# Altium integrated library HARTING DIN 41612 Type 2B.IntLib: 21 symbols
Pins are listed as number, name and electrical type; pins without a type are passive.

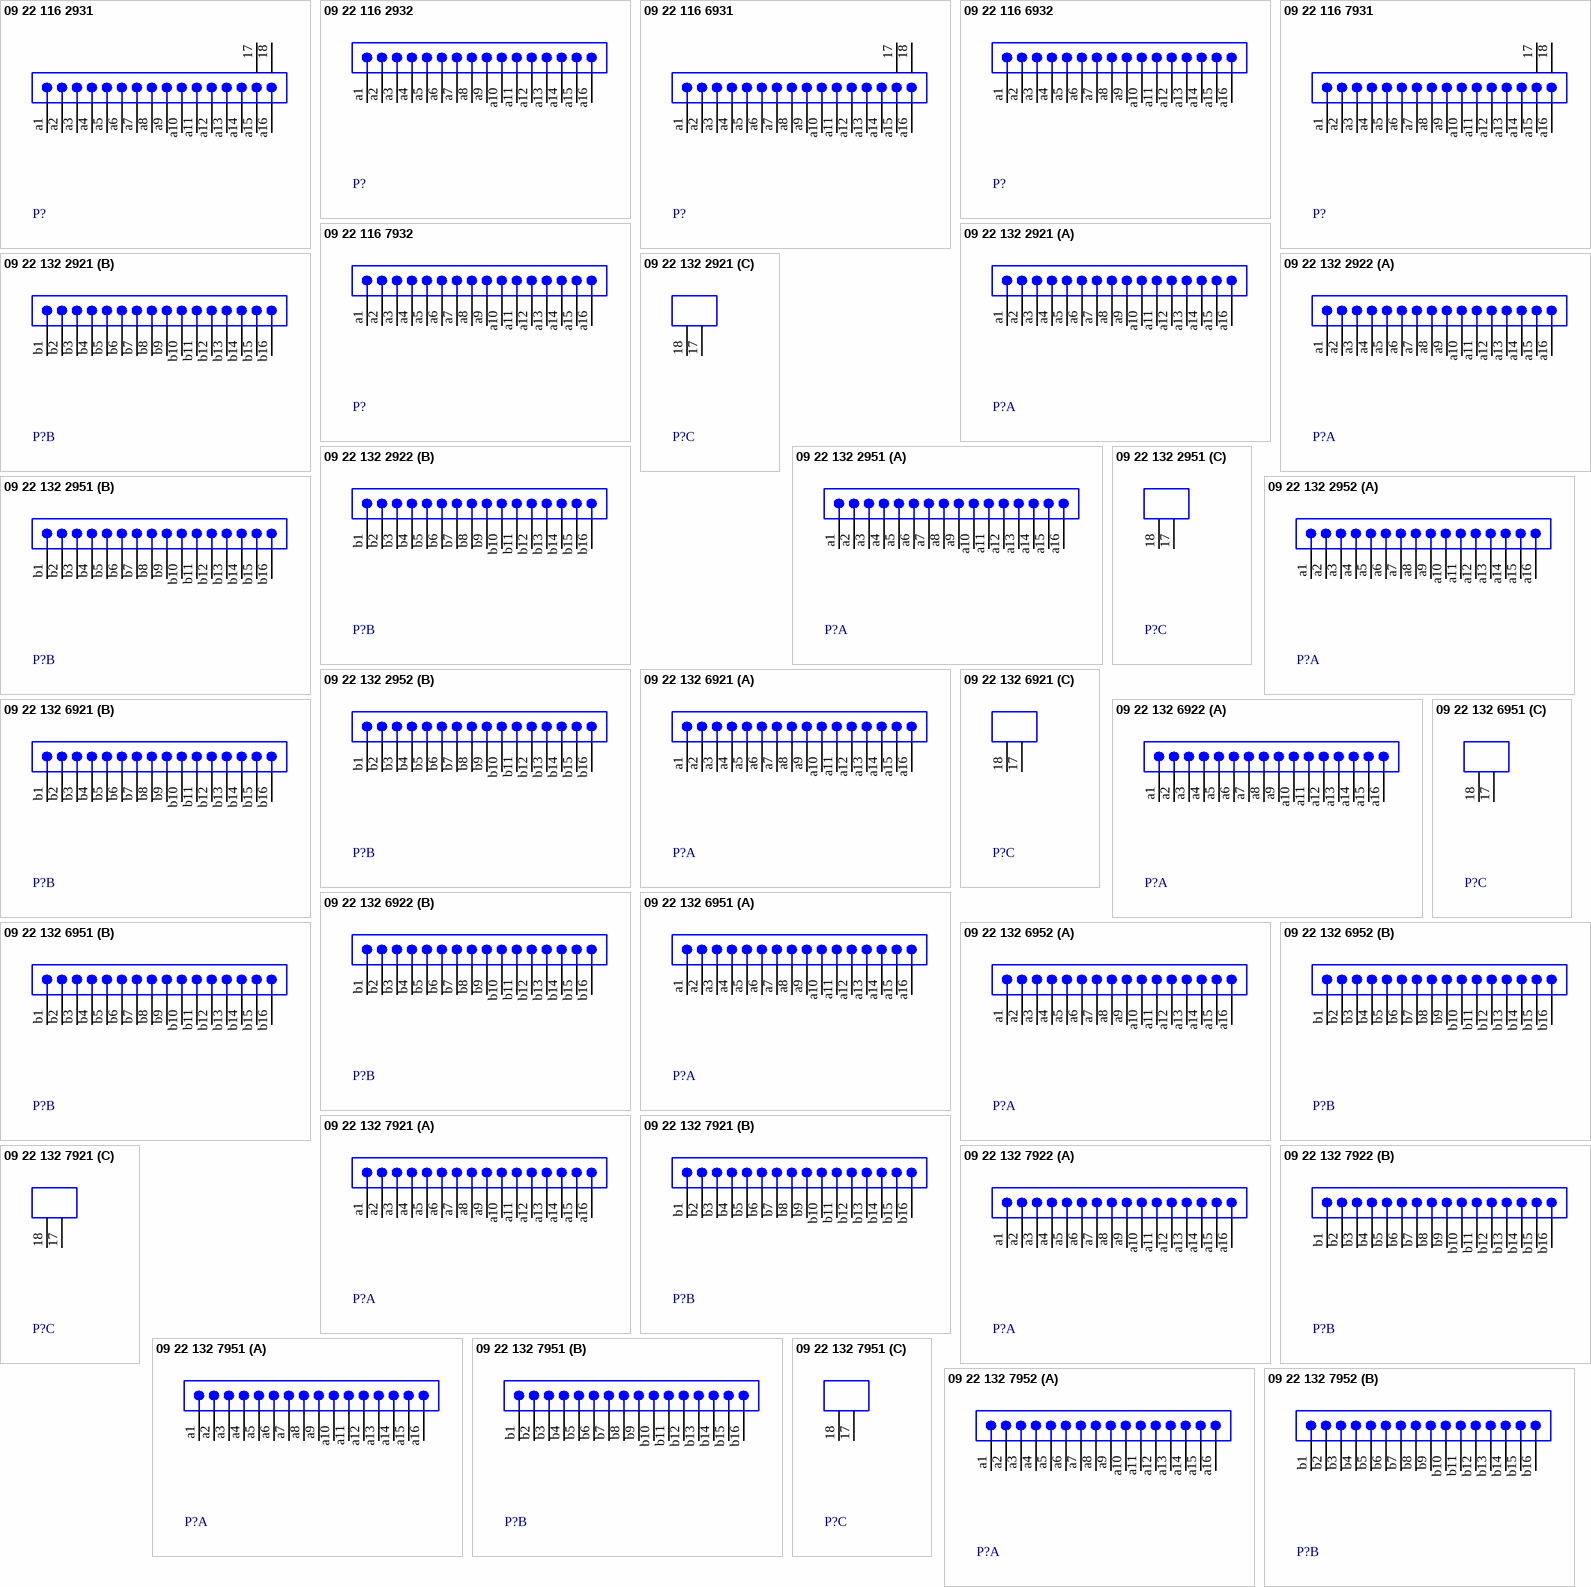
[diagram p0: symbols 09 22 116 2931 to 09 22 132 7952]

## 09 22 116 2931
designator P?
Eurocard DIN 41612, Type 2B, Half Size, 16 Position, Row a, Performance level 1, Male, Lead 3.0 mm, Pitch 2.54 mm; DrillSize: Corresponds to nominal value.; Published: 6-Oct-2005; DatasheetDocument: 02-Jun-2003; PackageDocument: 08-Aug-2000; PackageReference: 0922116x931; Publisher: Altium Limited; ComponentLink1Description: Manufacturer Link; ComponentLink1URL: http://www.harting.com/; ComponentLink2Description: Packaging Specification; ComponentLink2URL: http://www.harkis.harting.com/_gds/pdf/TB_0922116x931_BL01_R28429.pdf
footprint 0922116x931 (Connector; DIN 41612, Type 2B, Thru-Hole; Row a, 16 Position; Right Angle)
signal-integrity model DIN 41612
pins: 17 MH1 "Mounting Fixture", 18 MH2 "Mounting Fixture", a1, a2, a3, a4, a5, a6, a7, a8, a9, a10, a11, a12, a13, a14, a15, a16

## 09 22 116 2932
designator P?
Eurocard DIN 41612, Type 2B, Half Size, 16 Position, Row a, Performance level 1, Male, Lead 3.0 mm, Pitch 2.54 mm; DrillSize: Corresponds to nominal value.; Published: 6-Oct-2005; DatasheetDocument: 02-Jun-2003; PackageDocument: 08-Aug-2000; PackageReference: 0922116x932; Publisher: Altium Limited; ComponentLink1Description: Manufacturer Link; ComponentLink1URL: http://www.harting.com/; ComponentLink2Description: Packaging Specification; ComponentLink2URL: http://www.harkis.harting.com/_gds/pdf/TB_0922116x932_BL01_R28429.pdf
footprint 0922116x932 (Connector; DIN 41612, Type 2B, Thru-Hole; Row a, 16 Position; Vertical, No Mounting Fixture)
signal-integrity model DIN 41612
pins: a1, a2, a3, a4, a5, a6, a7, a8, a9, a10, a11, a12, a13, a14, a15, a16

## 09 22 116 6931
designator P?
Eurocard DIN 41612, Type 2B, Half Size, 16 Position, Row a, Performance level 2, Male, Lead 3.0 mm, Pitch 2.54 mm; DrillSize: Corresponds to nominal value.; Published: 6-Oct-2005; DatasheetDocument: 02-Jun-2003; PackageDocument: 08-Aug-2000; PackageReference: 0922116x931; Publisher: Altium Limited; ComponentLink1Description: Manufacturer Link; ComponentLink1URL: http://www.harting.com/; ComponentLink2Description: Packaging Specification; ComponentLink2URL: http://www.harkis.harting.com/_gds/pdf/TB_0922116x931_BL01_R28429.pdf
footprint 0922116x931 (Connector; DIN 41612, Type 2B, Thru-Hole; Row a, 16 Position; Right Angle)
signal-integrity model DIN 41612
pins: 17 MH1 "Mounting Fixture", 18 MH2 "Mounting Fixture", a1, a2, a3, a4, a5, a6, a7, a8, a9, a10, a11, a12, a13, a14, a15, a16

## 09 22 116 6932
designator P?
Eurocard DIN 41612, Type 2B, Half Size, 16 Position, Row a, Performance level 2, Male, Lead 3.0 mm, Pitch 2.54 mm; DrillSize: Corresponds to nominal value.; Published: 6-Oct-2005; DatasheetDocument: 02-Jun-2003; PackageDocument: 08-Aug-2000; PackageReference: 0922116x932; Publisher: Altium Limited; ComponentLink1Description: Manufacturer Link; ComponentLink1URL: http://www.harting.com/; ComponentLink2Description: Packaging Specification; ComponentLink2URL: http://www.harkis.harting.com/_gds/pdf/TB_0922116x932_BL01_R28429.pdf
footprint 0922116x932 (Connector; DIN 41612, Type 2B, Thru-Hole; Row a, 16 Position; Vertical, No Mounting Fixture)
signal-integrity model DIN 41612
pins: a1, a2, a3, a4, a5, a6, a7, a8, a9, a10, a11, a12, a13, a14, a15, a16

## 09 22 116 7931
designator P?
Eurocard DIN 41612, Type 2B, Half Size, 16 Position, Row a, Performance level 3, Male, Lead 3.0 mm, Pitch 2.54 mm; DrillSize: Corresponds to nominal value.; Published: 6-Oct-2005; DatasheetDocument: 02-Jun-2003; PackageDocument: 08-Aug-2000; PackageReference: 0922116x931; Publisher: Altium Limited; ComponentLink1Description: Manufacturer Link; ComponentLink1URL: http://www.harting.com/; ComponentLink2Description: Packaging Specification; ComponentLink2URL: http://www.harkis.harting.com/_gds/pdf/TB_0922116x931_BL01_R28429.pdf
footprint 0922116x931 (Connector; DIN 41612, Type 2B, Thru-Hole; Row a, 16 Position; Right Angle)
signal-integrity model DIN 41612
pins: 17 MH1 "Mounting Fixture", 18 MH2 "Mounting Fixture", a1, a2, a3, a4, a5, a6, a7, a8, a9, a10, a11, a12, a13, a14, a15, a16

## 09 22 116 7932
designator P?
Eurocard DIN 41612, Type 2B, Half Size, 16 Position, Row a, Performance level 3, Male, Lead 3.0 mm, Pitch 2.54 mm; DrillSize: Corresponds to nominal value.; Published: 6-Oct-2005; DatasheetDocument: 02-Jun-2003; PackageDocument: 08-Aug-2000; PackageReference: 0922116x932; Publisher: Altium Limited; ComponentLink1Description: Manufacturer Link; ComponentLink1URL: http://www.harting.com/; ComponentLink2Description: Packaging Specification; ComponentLink2URL: http://www.harkis.harting.com/_gds/pdf/TB_0922116x932_BL01_R28429.pdf
footprint 0922116x932 (Connector; DIN 41612, Type 2B, Thru-Hole; Row a, 16 Position; Vertical, No Mounting Fixture)
signal-integrity model DIN 41612
pins: a1, a2, a3, a4, a5, a6, a7, a8, a9, a10, a11, a12, a13, a14, a15, a16

## 09 22 132 2921
designator P?
Eurocard DIN 41612, Type 2B, Half Size, 32 Position, Rows a+b, Performance level 1, Male, Lead 3.0 mm, Pitch 2.54 mm; DrillSize: Corresponds to nominal value.; Published: 6-Oct-2005; DatasheetDocument: 02-Jun-2003; PackageDocument: 08-Aug-2000; PackageReference: 0922132x921; Publisher: Altium Limited; ComponentLink1Description: Manufacturer Link; ComponentLink1URL: http://www.harting.com/; ComponentLink2Description: Packaging Specification; ComponentLink2URL: http://www.harkis.harting.com/_gds/pdf/TB_0922132x921_BL01_R28429.pdf
footprint 0922132x921 (Connector; DIN 41612, Type 2B, Thru-Hole; Rows a+b, 32 Position; Right Angle)
signal-integrity model DIN 41612
part A pins: a1, a2, a3, a4, a5, a6, a7, a8, a9, a10, a11, a12, a13, a14, a15, a16
part B pins: b1, b2, b3, b4, b5, b6, b7, b8, b9, b10, b11, b12, b13, b14, b15, b16
part C pins: 17 MH1 "Mounting Fixture", 18 MH2 "Mounting Fixture"

## 09 22 132 2922
designator P?
Eurocard DIN 41612, Type 2B, Half Size, 32 Position, Rows a+b, Performance level 1, Male, Lead 3.0 mm, Pitch 2.54 mm; DrillSize: Corresponds to nominal value.; Published: 6-Oct-2005; DatasheetDocument: 02-Jun-2003; PackageDocument: 08-Aug-2000; PackageReference: 0922132x922; Publisher: Altium Limited; ComponentLink1Description: Manufacturer Link; ComponentLink1URL: http://www.harting.com/; ComponentLink2Description: Packaging Specification; ComponentLink2URL: http://www.harkis.harting.com/_gds/pdf/TB_0922132x922_BL01_R28429.pdf
footprint 0922132x922 (Connector; DIN 41612, Type 2B, Thru-Hole; Rows a+b, 32 Position; Vertical, No Mounting Fixture)
signal-integrity model DIN 41612
part A pins: a1, a2, a3, a4, a5, a6, a7, a8, a9, a10, a11, a12, a13, a14, a15, a16
part B pins: b1, b2, b3, b4, b5, b6, b7, b8, b9, b10, b11, b12, b13, b14, b15, b16

## 09 22 132 2951
designator P?
Eurocard DIN 41612, Type 2B, Half Size, 30+2 Position, Rows a+b, Performance level 1, Male, Lead 3.0 mm, Pitch 2.54 mm; Note: Two leading contacts at positions a1 & a16.; DrillSize: Corresponds to nominal value.; Published: 6-Oct-2005; DatasheetDocument: 02-Jun-2003; PackageDocument: 08-Aug-2000; PackageReference: 0922132x951; Publisher: Altium Limited; ComponentLink1Description: Manufacturer Link; ComponentLink1URL: http://www.harting.com/; ComponentLink2Description: Packaging Specification; ComponentLink2URL: http://www.harkis.harting.com/_gds/pdf/TB_0922132x951_BL01_R28429.pdf
footprint 0922132x951 (Connector; DIN 41612, Type 2B, Thru-Hole; Rows a+b, 32 Position; Right Angle)
signal-integrity model DIN 41612
part A pins: a1, a2, a3, a4, a5, a6, a7, a8, a9, a10, a11, a12, a13, a14, a15, a16
part B pins: b1, b2, b3, b4, b5, b6, b7, b8, b9, b10, b11, b12, b13, b14, b15, b16
part C pins: 17 MH1 "Mounting Fixture", 18 MH2 "Mounting Fixture"

## 09 22 132 2952
designator P?
Eurocard DIN 41612, Type 2B, Half Size, 30+2 Position, Rows a+b, Performance level 1, Male, Lead 3.0 mm, Pitch 2.54 mm; Note: Two leading contacts at positions a1 & a16.; DrillSize: Corresponds to nominal value.; Published: 6-Oct-2005; DatasheetDocument: 02-Jun-2003; PackageReference: 922132x952; Publisher: Altium Limited; ComponentLink1Description: Manufacturer Link; ComponentLink1URL: http://www.harting.com/
footprint 922132x952 (Connector; DIN 41612, Type 2B, Thru-Hole; Rows a+b, 32 Position; Vertical)
signal-integrity model DIN 41612
part A pins: a1, a2, a3, a4, a5, a6, a7, a8, a9, a10, a11, a12, a13, a14, a15, a16
part B pins: b1, b2, b3, b4, b5, b6, b7, b8, b9, b10, b11, b12, b13, b14, b15, b16

## 09 22 132 6921
designator P?
Eurocard DIN 41612, Type 2B, Half Size, 32 Position, Rows a+b, Performance level 2, Male, Lead 3.0 mm, Pitch 2.54 mm; DrillSize: Corresponds to nominal value.; Published: 6-Oct-2005; DatasheetDocument: 02-Jun-2003; PackageDocument: 08-Aug-2000; PackageReference: 0922132x921; Publisher: Altium Limited; ComponentLink1Description: Manufacturer Link; ComponentLink1URL: http://www.harting.com/; ComponentLink2Description: Packaging Specification; ComponentLink2URL: http://www.harkis.harting.com/_gds/pdf/TB_0922132x921_BL01_R28429.pdf
footprint 0922132x921 (Connector; DIN 41612, Type 2B, Thru-Hole; Rows a+b, 32 Position; Right Angle)
signal-integrity model DIN 41612
part A pins: a1, a2, a3, a4, a5, a6, a7, a8, a9, a10, a11, a12, a13, a14, a15, a16
part B pins: b1, b2, b3, b4, b5, b6, b7, b8, b9, b10, b11, b12, b13, b14, b15, b16
part C pins: 17 MH1 "Mounting Fixture", 18 MH2 "Mounting Fixture"

## 09 22 132 6922
designator P?
Eurocard DIN 41612, Type 2B, Half Size, 32 Position, Rows a+b, Performance level 2, Male, Lead 3.0 mm, Pitch 2.54 mm; DrillSize: Corresponds to nominal value.; Published: 6-Oct-2005; DatasheetDocument: 02-Jun-2003; PackageDocument: 08-Aug-2000; PackageReference: 0922132x922; Publisher: Altium Limited; ComponentLink1Description: Manufacturer Link; ComponentLink1URL: http://www.harting.com/; ComponentLink2Description: Packaging Specification; ComponentLink2URL: http://www.harkis.harting.com/_gds/pdf/TB_0922132x922_BL01_R28429.pdf
footprint 0922132x922 (Connector; DIN 41612, Type 2B, Thru-Hole; Rows a+b, 32 Position; Vertical, No Mounting Fixture)
signal-integrity model DIN 41612
part A pins: a1, a2, a3, a4, a5, a6, a7, a8, a9, a10, a11, a12, a13, a14, a15, a16
part B pins: b1, b2, b3, b4, b5, b6, b7, b8, b9, b10, b11, b12, b13, b14, b15, b16

## 09 22 132 6951
designator P?
Eurocard DIN 41612, Type 2B, Half Size, 30+2 Position, Rows a+b, Performance level 2, Male, Lead 3.0 mm, Pitch 2.54 mm; Note: Two leading contacts at positions a1 & a16.; DrillSize: Corresponds to nominal value.; Published: 6-Oct-2005; DatasheetDocument: 02-Jun-2003; PackageDocument: 08-Aug-2000; PackageReference: 0922132x951; Publisher: Altium Limited; ComponentLink1Description: Manufacturer Link; ComponentLink1URL: http://www.harting.com/; ComponentLink2Description: Packaging Specification; ComponentLink2URL: http://www.harkis.harting.com/_gds/pdf/TB_0922132x951_BL01_R28429.pdf
footprint 0922132x951 (Connector; DIN 41612, Type 2B, Thru-Hole; Rows a+b, 32 Position; Right Angle)
signal-integrity model DIN 41612
part A pins: a1, a2, a3, a4, a5, a6, a7, a8, a9, a10, a11, a12, a13, a14, a15, a16
part B pins: b1, b2, b3, b4, b5, b6, b7, b8, b9, b10, b11, b12, b13, b14, b15, b16
part C pins: 17 MH1 "Mounting Fixture", 18 MH2 "Mounting Fixture"

## 09 22 132 6952
designator P?
Eurocard DIN 41612, Type 2B, Half Size, 30+2 Position, Rows a+b, Performance level 2, Male, Lead 3.0 mm, Pitch 2.54 mm; Note: Two leading contacts at positions a1 & a16.; DrillSize: Corresponds to nominal value.; Published: 6-Oct-2005; DatasheetDocument: 02-Jun-2003; PackageReference: 922132x952; Publisher: Altium Limited; ComponentLink1Description: Manufacturer Link; ComponentLink1URL: http://www.harting.com/
footprint 922132x952 (Connector; DIN 41612, Type 2B, Thru-Hole; Rows a+b, 32 Position; Vertical)
signal-integrity model DIN 41612
part A pins: a1, a2, a3, a4, a5, a6, a7, a8, a9, a10, a11, a12, a13, a14, a15, a16
part B pins: b1, b2, b3, b4, b5, b6, b7, b8, b9, b10, b11, b12, b13, b14, b15, b16

## 09 22 132 7921
designator P?
Eurocard DIN 41612, Type 2B, Half Size, 32 Position, Rows a+b, Performance level 3, Male, Lead 3.0 mm, Pitch 2.54 mm; DrillSize: Corresponds to nominal value.; Published: 6-Oct-2005; DatasheetDocument: 02-Jun-2003; PackageDocument: 08-Aug-2000; PackageReference: 0922132x921; Publisher: Altium Limited; ComponentLink1Description: Manufacturer Link; ComponentLink1URL: http://www.harting.com/; ComponentLink2Description: Packaging Specification; ComponentLink2URL: http://www.harkis.harting.com/_gds/pdf/TB_0922132x921_BL01_R28429.pdf
footprint 0922132x921 (Connector; DIN 41612, Type 2B, Thru-Hole; Rows a+b, 32 Position; Right Angle)
signal-integrity model DIN 41612
part A pins: a1, a2, a3, a4, a5, a6, a7, a8, a9, a10, a11, a12, a13, a14, a15, a16
part B pins: b1, b2, b3, b4, b5, b6, b7, b8, b9, b10, b11, b12, b13, b14, b15, b16
part C pins: 17 MH1 "Mounting Fixture", 18 MH2 "Mounting Fixture"

## 09 22 132 7922
designator P?
Eurocard DIN 41612, Type 2B, Half Size, 32 Position, Rows a+b, Performance level 3, Male, Lead 3.0 mm, Pitch 2.54 mm; DrillSize: Corresponds to nominal value.; Published: 6-Oct-2005; DatasheetDocument: 02-Jun-2003; PackageDocument: 08-Aug-2000; PackageReference: 0922132x922; Publisher: Altium Limited; ComponentLink1Description: Manufacturer Link; ComponentLink1URL: http://www.harting.com/; ComponentLink2Description: Packaging Specification; ComponentLink2URL: http://www.harkis.harting.com/_gds/pdf/TB_0922132x922_BL01_R28429.pdf
footprint 0922132x922 (Connector; DIN 41612, Type 2B, Thru-Hole; Rows a+b, 32 Position; Vertical, No Mounting Fixture)
signal-integrity model DIN 41612
part A pins: a1, a2, a3, a4, a5, a6, a7, a8, a9, a10, a11, a12, a13, a14, a15, a16
part B pins: b1, b2, b3, b4, b5, b6, b7, b8, b9, b10, b11, b12, b13, b14, b15, b16

## 09 22 132 7951
designator P?
Eurocard DIN 41612, Type 2B, Half Size, 30+2 Position, Rows a+b, Performance level 3, Male, Lead 3.0 mm, Pitch 2.54 mm; Note: Two leading contacts at positions a1 & a16.; DrillSize: Corresponds to nominal value.; Published: 6-Oct-2005; DatasheetDocument: 02-Jun-2003; PackageDocument: 08-Aug-2000; PackageReference: 0922132x951; Publisher: Altium Limited; ComponentLink1Description: Manufacturer Link; ComponentLink1URL: http://www.harting.com/; ComponentLink2Description: Packaging Specification; ComponentLink2URL: http://www.harkis.harting.com/_gds/pdf/TB_0922132x951_BL01_R28429.pdf
footprint 0922132x951 (Connector; DIN 41612, Type 2B, Thru-Hole; Rows a+b, 32 Position; Right Angle)
signal-integrity model DIN 41612
part A pins: a1, a2, a3, a4, a5, a6, a7, a8, a9, a10, a11, a12, a13, a14, a15, a16
part B pins: b1, b2, b3, b4, b5, b6, b7, b8, b9, b10, b11, b12, b13, b14, b15, b16
part C pins: 17 MH1 "Mounting Fixture", 18 MH2 "Mounting Fixture"

## 09 22 132 7952
designator P?
Eurocard DIN 41612, Type 2B, Half Size, 30+2 Position, Rows a+b, Performance level 3, Male, Lead 3.0 mm, Pitch 2.54 mm; Note: Two leading contacts at positions a1 & a16.; DrillSize: Corresponds to nominal value.; Published: 6-Oct-2005; DatasheetDocument: 02-Jun-2003; PackageReference: 922132x952; Publisher: Altium Limited; ComponentLink1Description: Manufacturer Link; ComponentLink1URL: http://www.harting.com/
footprint 922132x952 (Connector; DIN 41612, Type 2B, Thru-Hole; Rows a+b, 32 Position; Vertical)
signal-integrity model DIN 41612
part A pins: a1, a2, a3, a4, a5, a6, a7, a8, a9, a10, a11, a12, a13, a14, a15, a16
part B pins: b1, b2, b3, b4, b5, b6, b7, b8, b9, b10, b11, b12, b13, b14, b15, b16

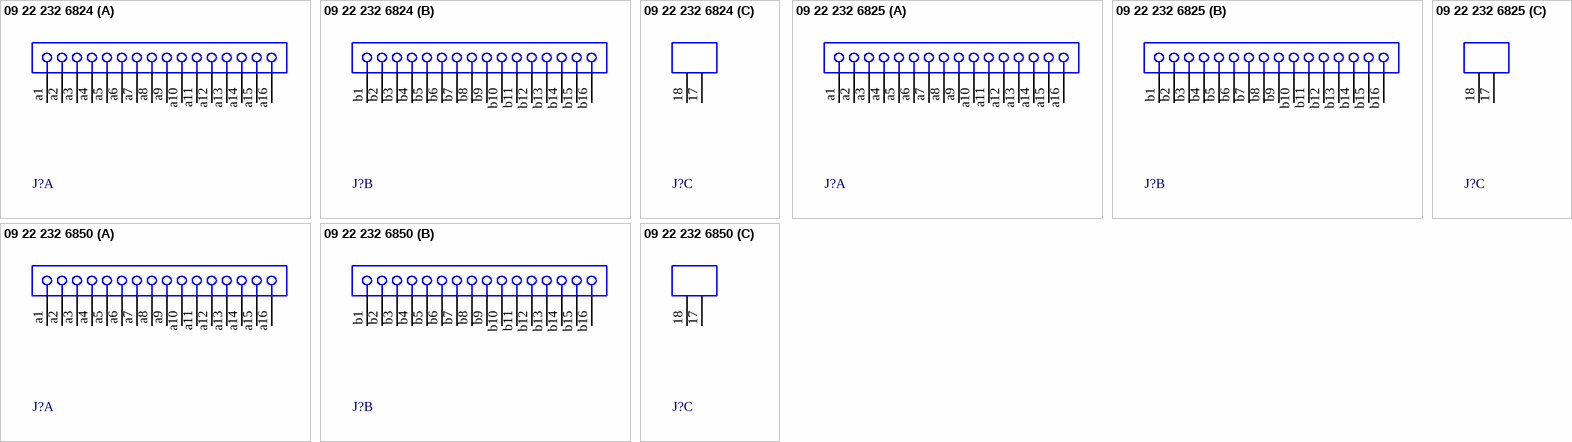
[diagram p1: symbols 09 22 232 6824 to 09 22 232 6850]

## 09 22 232 6824
designator J?
Eurocard DIN 41612, Type 2B, Half Size, 32 Position, Rows a+b, Performance level 2, Female, Lead 2.9 mm, Pitch 2.54 mm; DrillSize: Corresponds to nominal value.; Published: 6-Oct-2005; DatasheetDocument: 02-Jun-2003; PackageDocument: 13-Oct-1999; PackageReference: 0922232x824; Publisher: Altium Limited; ComponentLink1Description: Manufacturer Link; ComponentLink1URL: http://www.harting.com/; ComponentLink2Description: Packaging Specification; ComponentLink2URL: http://www.harkis.harting.com/_gds/pdf/TB_0922232x824_BL01_R30234.pdf
footprint 0922232x824 (Connector; DIN 41612, Type 2B, Thru-Hole; Rows a+b, 32 Position; Vertical)
signal-integrity model DIN 41612
part A pins: a1, a2, a3, a4, a5, a6, a7, a8, a9, a10, a11, a12, a13, a14, a15, a16
part B pins: b1, b2, b3, b4, b5, b6, b7, b8, b9, b10, b11, b12, b13, b14, b15, b16
part C pins: 17 MH1 "Mounting Fixture", 18 MH2 "Mounting Fixture"

## 09 22 232 6825
designator J?
Eurocard DIN 41612, Type 2B, Half Size, 32 Position, Rows a+b, Performance level 2, Female, Lead 4.5 mm, Pitch 2.54 mm; DrillSize: Corresponds to nominal value.; Published: 6-Oct-2005; DatasheetDocument: 02-Jun-2003; PackageDocument: 13-Oct-1999; PackageReference: 0922232x825; Publisher: Altium Limited; ComponentLink1Description: Manufacturer Link; ComponentLink1URL: http://www.harting.com/; ComponentLink2Description: Packaging Specification; ComponentLink2URL: http://www.harkis.harting.com/_gds/pdf/TB_0922232x825_BL01_R30234.pdf
footprint 0922232x825 (Connector; DIN 41612, Type 2B, Thru-Hole; Rows a+b, 32 Position; Vertical)
signal-integrity model DIN 41612
part A pins: a1, a2, a3, a4, a5, a6, a7, a8, a9, a10, a11, a12, a13, a14, a15, a16
part B pins: b1, b2, b3, b4, b5, b6, b7, b8, b9, b10, b11, b12, b13, b14, b15, b16
part C pins: 17 MH1 "Mounting Fixture", 18 MH2 "Mounting Fixture"

## 09 22 232 6850
designator J?
Eurocard DIN 41612, Type 2B, Half Size, 32 Position, Rows a+b, Performance level 2, Female, Lead 4.5 mm, Pitch 2.54 mm; DrillSize: Corresponds to nominal value.; Published: 6-Oct-2005; DatasheetDocument: 03-Jun-2003; PackageDocument: 13-Oct-1999; PackageReference: 0922232x850; Publisher: Altium Limited; ComponentLink1Description: Manufacturer Link; ComponentLink1URL: http://www.harting.com/; ComponentLink2Description: Packaging Specification; ComponentLink2URL: http://www.harkis.harting.com/_gds/pdf/TB_0922232x850_BL01_R30234.pdf
footprint 0922232x850 (Connector; DIN 41612, Type 2B, Thru-Hole; Rows a+b, 32 Position; Vertical)
signal-integrity model DIN 41612
part A pins: a1, a2, a3, a4, a5, a6, a7, a8, a9, a10, a11, a12, a13, a14, a15, a16
part B pins: b1, b2, b3, b4, b5, b6, b7, b8, b9, b10, b11, b12, b13, b14, b15, b16
part C pins: 17 MH1 "Mounting Fixture", 18 MH2 "Mounting Fixture"